# EAGLE library part 5-WAY_SWITCH (library sneakypoo)
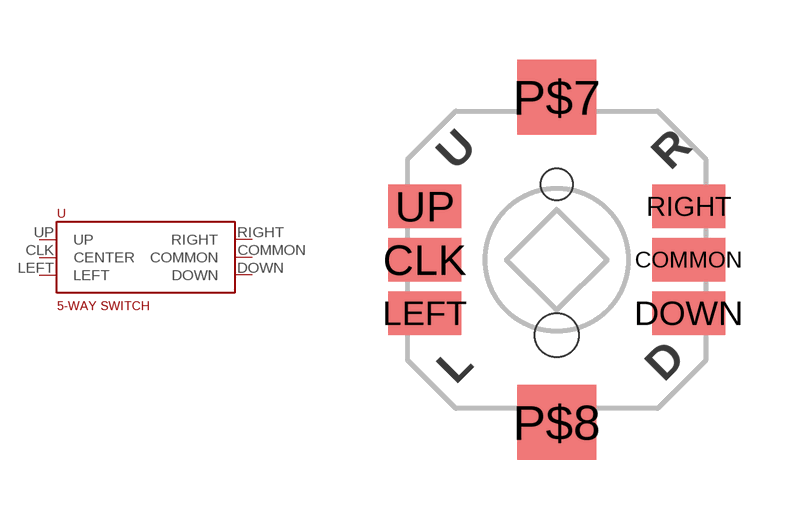
[diagram p0: symbol with the pads of 5-WAY_SWITCH; footprint 5-WAY_SWITCH]

Designator prefix -

## 5-WAY_SWITCH  [5-WAY_SWITCH]
CLK  CENTER
COMMON  COMMON
DOWN  DOWN
LEFT  LEFT
RIGHT  RIGHT
UP  UP

## Footprint 5-WAY_SWITCH (pad centres in mm)
smd 1.85 x 1.1: CLK -3.325,0; COMMON 3.325,0; DOWN 3.325,-1.35; LEFT -3.325,-1.35; RIGHT 3.325,1.35; UP -3.325,1.35
smd 2 x 1.9: P$7 0,4.1; P$8 0,-4.1
hole 0.8 at 0,1.9
hole 1.1 at 0,-1.9